# EAGLE library part BQ25505 (library shepherd)
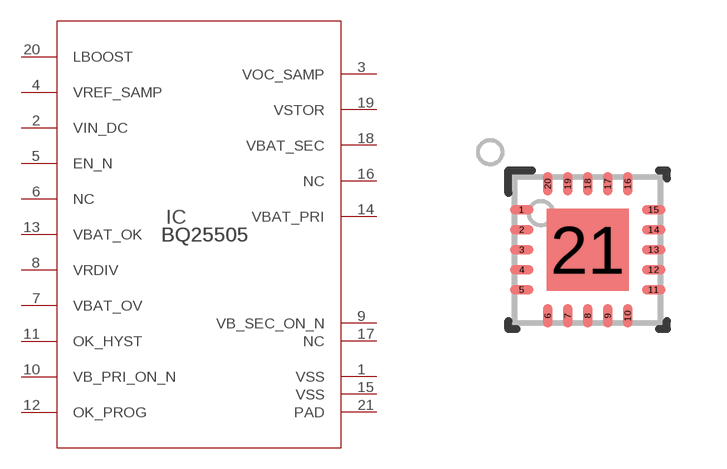
[diagram p21: symbol with the pads of RGR0020A; footprint RGR0020A]

Designator prefix IC

## BQ25505  [RGR0020A]
1  VSS  pwr
2  VIN_DC  pwr
3  VOC_SAMP  in
4  VREF_SAMP  in
5  EN_N  in
6  NC  nc
7  VBAT_OV  in
8  VRDIV  out
9  VB_SEC_ON_N  pwr
10  VB_PRI_ON_N  out
11  OK_HYST  in
12  OK_PROG  in
13  VBAT_OK  out
14  VBAT_PRI  pwr
15  VSS  pwr
16  NC  nc
17  NC  nc
18  VBAT_SEC  pwr
19  VSTOR  pwr
20  LBOOST  in
21  PAD  pwr

## Footprint RGR0020A (pad centres in mm)
smd 0.6 x 0.24: 1 -1.65,1; 2 -1.65,0.5; 3 -1.65,0; 4 -1.65,-0.5; 5 -1.65,-1; 11 1.65,-1; 12 1.65,-0.5; 13 1.65,0; 14 1.65,0.5; 15 1.65,1
smd 0.24 x 0.6: 6 -1,-1.65; 7 -0.5,-1.65; 8 0,-1.65; 9 0.5,-1.65; 10 1,-1.65; 16 1,1.65; 17 0.5,1.65; 18 0,1.65; 19 -0.5,1.65; 20 -1,1.65
smd 2.05 x 2.05: 21 0,0